# EAGLE library part RASPBERRY_PI_ZERO_W_V1.1_GPIO (library FPV-Auto)
Raspberry Pi Zero W The Raspberry Pi Zero W extends the Pi Zero family and comes with added wireless LAN and Bluetooth connectivity. Links GPIO Pinout guide <https://pinout.xyz/> Product website <https://www.raspberrypi.org/products/raspberry-pi-zero-w/> Connectors needed: Power & SD: 0906-4-15-20-75-14-11-0 USB data: 0985-0-15-20-71-14-11-0 GPIO: BL 1X20G 2,54 (Reichelt) GPIO SMD: 855-M20-7812045 (Mouser)
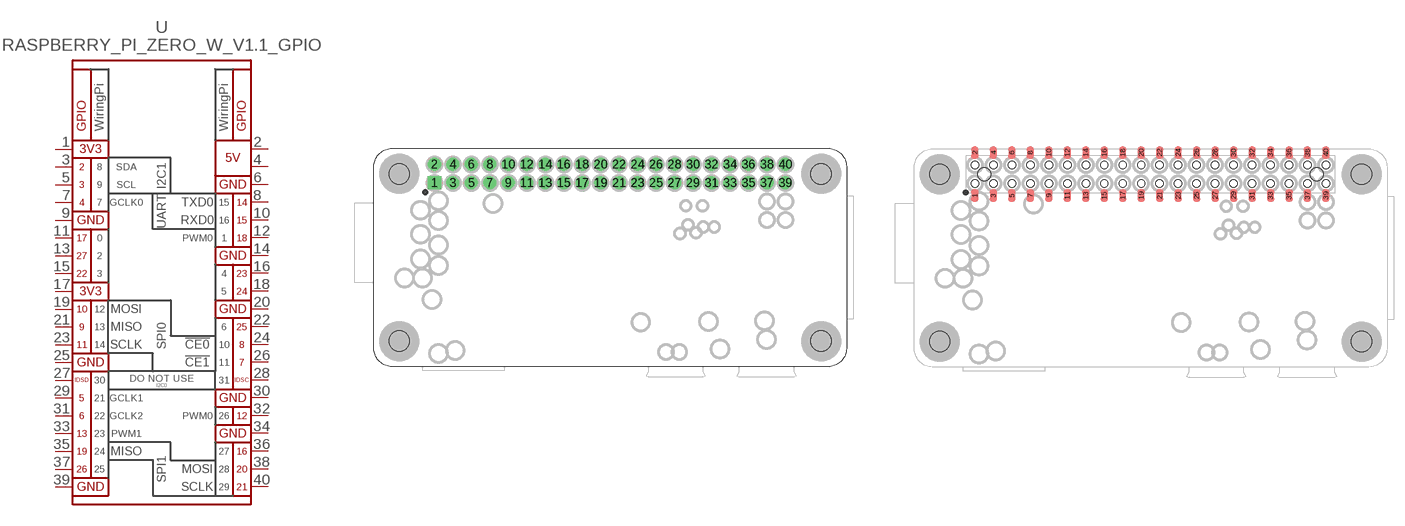
[diagram p9: symbol with the pads of RASPBERRY_PI_ZERO_W_V1.1_GPIO; footprints RASPBERRY_PI_ZERO_W_V1.1_GPIO, RASPBERRY_PI_ZERO_W_V1.1_GPIO_SMD]

Designator prefix U

## RASPBERRY_PI_ZERO_W_V1.1_GPIO (OC_REICHELT: BL 1X20G 2,54 (2X))  [RASPBERRY_PI_ZERO_W_V1.1_GPIO]
1  3V3  sup
2  5V  sup
3  GPIO2/SDA1
4  5V  sup
5  GPIO3/SCL1
6  GND  sup
7  GPIO4/GCKL
8  GPIO14/TXD0
9  GND  pwr
10  GPIO15/RXD0
11  GPIO17/GEN0
12  GPIO18
13  GPIO27/GEN2
14  GND  sup
15  GPIO22/GEN3
16  GPIO23/GEN4
17  3V3  sup
18  GPIO24/GEN5
19  GPIO10/MOSI
20  GND  sup
21  GPIO9/MISO
22  GPIO25/GEN6
23  GPIO11/SCLK
24  GPIO8/!CE0!
25  GND  sup
26  GPIO7/!CE1!
27  ID_SD
28  ID_SC
29  GPIO5
30  GND  sup
31  GPIO6
32  GPIO12
33  GPIO13
34  GND  sup
35  GPIO19
36  GPIO16
37  GPIO26
38  GPIO20
39  GND  sup
40  GPIO21

## RASPBERRY_PI_ZERO_W_V1.1_GPIO_SMD (OC_MOUSER: 855-M20-7812045)  [RASPBERRY_PI_ZERO_W_V1.1_GPIO_SMD]
Pads as for RASPBERRY_PI_ZERO_W_V1.1_GPIO

## RASPBERRY_PI_ZERO_W_V1.1_GPIO_DUAL  [RASPBERRY_PI_ZERO_W_V1.1_GPIO_DUAL]
5  GPIO3/SCL1
6  GND  sup
7  GPIO4/GCKL
8  GPIO14/TXD0
9  GND  pwr
10  GPIO15/RXD0
11  GPIO17/GEN0
12  GPIO18
13  GPIO27/GEN2
14  GND  sup
15  GPIO22/GEN3
16  GPIO23/GEN4
17  3V3  sup
18  GPIO24/GEN5
19  GPIO10/MOSI
20  GND  sup
21  GPIO9/MISO
22  GPIO25/GEN6
23  GPIO11/SCLK
24  GPIO8/!CE0!
25  GND  sup
26  GPIO7/!CE1!
27  ID_SD
28  ID_SC
29  GPIO5
30  GND  sup
31  GPIO6
32  GPIO12
33  GPIO13
34  GND  sup
35  GPIO19
36  GPIO16
SMD_1  3V3  sup
SMD_2  5V  sup
SMD_3  GPIO2/SDA1
SMD_4  5V  sup
SMD_5  GPIO3/SCL1
SMD_6  GND  sup
SMD_7  GPIO4/GCKL
SMD_8  GPIO14/TXD0
SMD_9  GND  pwr
SMD_10  GPIO15/RXD0
SMD_11  GPIO17/GEN0
SMD_12  GPIO18
SMD_13  GPIO27/GEN2
SMD_14  GND  sup
SMD_15  GPIO22/GEN3
SMD_16  GPIO23/GEN4
SMD_17  3V3  sup
SMD_18  GPIO24/GEN5
SMD_19  GPIO10/MOSI
SMD_20  GND  sup
SMD_21  GPIO9/MISO
SMD_22  GPIO25/GEN6
SMD_23  GPIO11/SCLK
SMD_24  GPIO8/!CE0!
SMD_25  GND  sup
SMD_26  GPIO7/!CE1!
SMD_27  ID_SD
SMD_28  ID_SC
SMD_29  GPIO5
SMD_30  GND  sup
SMD_31  GPIO6
SMD_32  GPIO12
SMD_33  GPIO13
SMD_34  GND  sup
SMD_35  GPIO19
SMD_36  GPIO16
SMD_37  GPIO26
SMD_38  GPIO20
SMD_39  GND  sup
SMD_40  GPIO21

## Footprint RASPBERRY_PI_ZERO_W_V1.1_GPIO (pad centres in mm)
drill 1.02 pad 1.8 square: 1 0,0
drill 1.02 pad 1.8: 2 0,2.54; 3 2.54,0; 4 2.54,2.54; 5 5.08,0; 6 5.08,2.54; 7 7.62,0; 8 7.62,2.54; 9 10.16,0; 10 10.16,2.54; 11 12.7,0; 12 12.7,2.54; 13 15.24,0; 14 15.24,2.54; 15 17.78,0; 16 17.78,2.54; 17 20.32,0; 18 20.32,2.54; 19 22.86,0; 20 22.86,2.54; 21 25.4,0; 22 25.4,2.54; 23 27.94,0; 24 27.94,2.54; 25 30.48,0; 26 30.48,2.54; 27 33.02,0; 28 33.02,2.54; 29 35.56,0; 30 35.56,2.54; 31 38.1,0; 32 38.1,2.54; 33 40.64,0; 34 40.64,2.54; 35 43.18,0; 36 43.18,2.54; 37 45.72,0; 38 45.72,2.54; 39 48.26,0; 40 48.26,2.54
hole 2.8 at 53.16,1.24
hole 2.8 at 53.16,-21.76
hole 2.8 at -4.84,-21.76
hole 2.8 at -4.84,1.24

## Footprint RASPBERRY_PI_ZERO_W_V1.1_GPIO_SMD (pad centres in mm)
smd 1.02 x 1.72: 1 0,-1.67; 2 0,4.21; 3 2.54,-1.67; 4 2.54,4.21; 5 5.08,-1.67; 6 5.08,4.21; 7 7.62,-1.67; 8 7.62,4.21; 9 10.16,-1.67; 10 10.16,4.21; 11 12.7,-1.67; 12 12.7,4.21; 13 15.24,-1.67; 14 15.24,4.21; 15 17.78,-1.67; 16 17.78,4.21; 17 20.32,-1.67; 18 20.32,4.21; 19 22.86,-1.67; 20 22.86,4.21; 21 25.4,-1.67; 22 25.4,4.21; 23 27.94,-1.67; 24 27.94,4.21; 25 30.48,-1.67; 26 30.48,4.21; 27 33.02,-1.67; 28 33.02,4.21; 29 35.56,-1.67; 30 35.56,4.21; 31 38.1,-1.67; 32 38.1,4.21; 33 40.64,-1.67; 34 40.64,4.21; 35 43.18,-1.67; 36 43.18,4.21; 37 45.72,-1.67; 38 45.72,4.21; 39 48.26,-1.67; 40 48.26,4.21
hole 2.8 at 53.16,1.24
hole 2.8 at 53.16,-21.76
hole 2.8 at -4.84,-21.76
hole 2.8 at -4.84,1.24
hole 1.02 at 0,0
hole 1.02 at 2.54,0
hole 1.02 at 5.08,0
hole 1.02 at 5.08,2.54
hole 1.02 at 2.54,2.54
hole 1.02 at 0,2.54
hole 1.8 at 1.27,1.27
hole 1.02 at 7.62,0
hole 1.02 at 10.16,0
hole 1.02 at 10.16,2.54
hole 1.02 at 7.62,2.54
hole 1.02 at 12.7,0
hole 1.02 at 15.24,0
hole 1.02 at 15.24,2.54
hole 1.02 at 12.7,2.54
hole 1.02 at 17.78,0
hole 1.02 at 20.32,0
hole 1.02 at 20.32,2.54
hole 1.02 at 17.78,2.54
hole 1.02 at 22.86,0
hole 1.02 at 25.4,0
hole 1.02 at 25.4,2.54
hole 1.02 at 22.86,2.54
hole 1.02 at 27.94,0
hole 1.02 at 30.48,0
hole 1.02 at 30.48,2.54
hole 1.02 at 27.94,2.54
hole 1.02 at 33.02,0
hole 1.02 at 35.56,0
hole 1.02 at 35.56,2.54
hole 1.02 at 33.02,2.54
hole 1.02 at 38.1,0
hole 1.02 at 40.64,0
hole 1.02 at 40.64,2.54
hole 1.02 at 38.1,2.54
hole 1.02 at 43.18,0
hole 1.02 at 43.18,2.54
hole 1.02 at 45.72,0
hole 1.02 at 48.26,0
hole 1.02 at 48.26,2.54
hole 1.02 at 45.72,2.54
hole 1.8 at 46.99,1.27

## Footprint RASPBERRY_PI_ZERO_W_V1.1_GPIO_DUAL (pad centres in mm)
drill 1.02 pad 1.8: 5 5.08,0; 6 5.08,2.54; 7 7.62,0; 8 7.62,2.54; 9 10.16,0; 10 10.16,2.54; 11 12.7,0; 12 12.7,2.54; 13 15.24,0; 14 15.24,2.54; 15 17.78,0; 16 17.78,2.54; 17 20.32,0; 18 20.32,2.54; 19 22.86,0; 20 22.86,2.54; 21 25.4,0; 22 25.4,2.54; 23 27.94,0; 24 27.94,2.54; 25 30.48,0; 26 30.48,2.54; 27 33.02,0; 28 33.02,2.54; 29 35.56,0; 30 35.56,2.54; 31 38.1,0; 32 38.1,2.54; 33 40.64,0; 34 40.64,2.54; 35 43.18,0; 36 43.18,2.54
smd 1.02 x 1.72: SMD_1 0,-1.67; SMD_2 0,4.21; SMD_3 2.54,-1.67; SMD_4 2.54,4.21; SMD_5 5.08,-1.67; SMD_6 5.08,4.21; SMD_7 7.62,-1.67; SMD_8 7.62,4.21; SMD_9 10.16,-1.67; SMD_10 10.16,4.21; SMD_11 12.7,-1.67; SMD_12 12.7,4.21; SMD_13 15.24,-1.67; SMD_14 15.24,4.21; SMD_15 17.78,-1.67; SMD_16 17.78,4.21; SMD_17 20.32,-1.67; SMD_18 20.32,4.21; SMD_19 22.86,-1.67; SMD_20 22.86,4.21; SMD_21 25.4,-1.67; SMD_22 25.4,4.21; SMD_23 27.94,-1.67; SMD_24 27.94,4.21; SMD_25 30.48,-1.67; SMD_26 30.48,4.21; SMD_27 33.02,-1.67; SMD_28 33.02,4.21; SMD_29 35.56,-1.67; SMD_30 35.56,4.21; SMD_31 38.1,-1.67; SMD_32 38.1,4.21; SMD_33 40.64,-1.67; SMD_34 40.64,4.21; SMD_35 43.18,-1.67; SMD_36 43.18,4.21; SMD_37 45.72,-1.67; SMD_38 45.72,4.21; SMD_39 48.26,-1.67; SMD_40 48.26,4.21
hole 2.8 at 53.16,1.24
hole 2.8 at 53.16,-21.76
hole 2.8 at -4.84,-21.76
hole 2.8 at -4.84,1.24
hole 1.8 at 1.27,1.27
hole 1.8 at 46.99,1.27
hole 1.02 at 0,0
hole 1.02 at 2.54,0
hole 1.02 at 2.54,2.54
hole 1.02 at 0,2.54
hole 1.02 at 45.72,0
hole 1.02 at 48.26,0
hole 1.02 at 48.26,2.54
hole 1.02 at 45.72,2.54